# Altium schematic symbol library Female Header.SchLib: 61 symbols
Pins are listed as number, name and electrical type; pins without a type are passive.

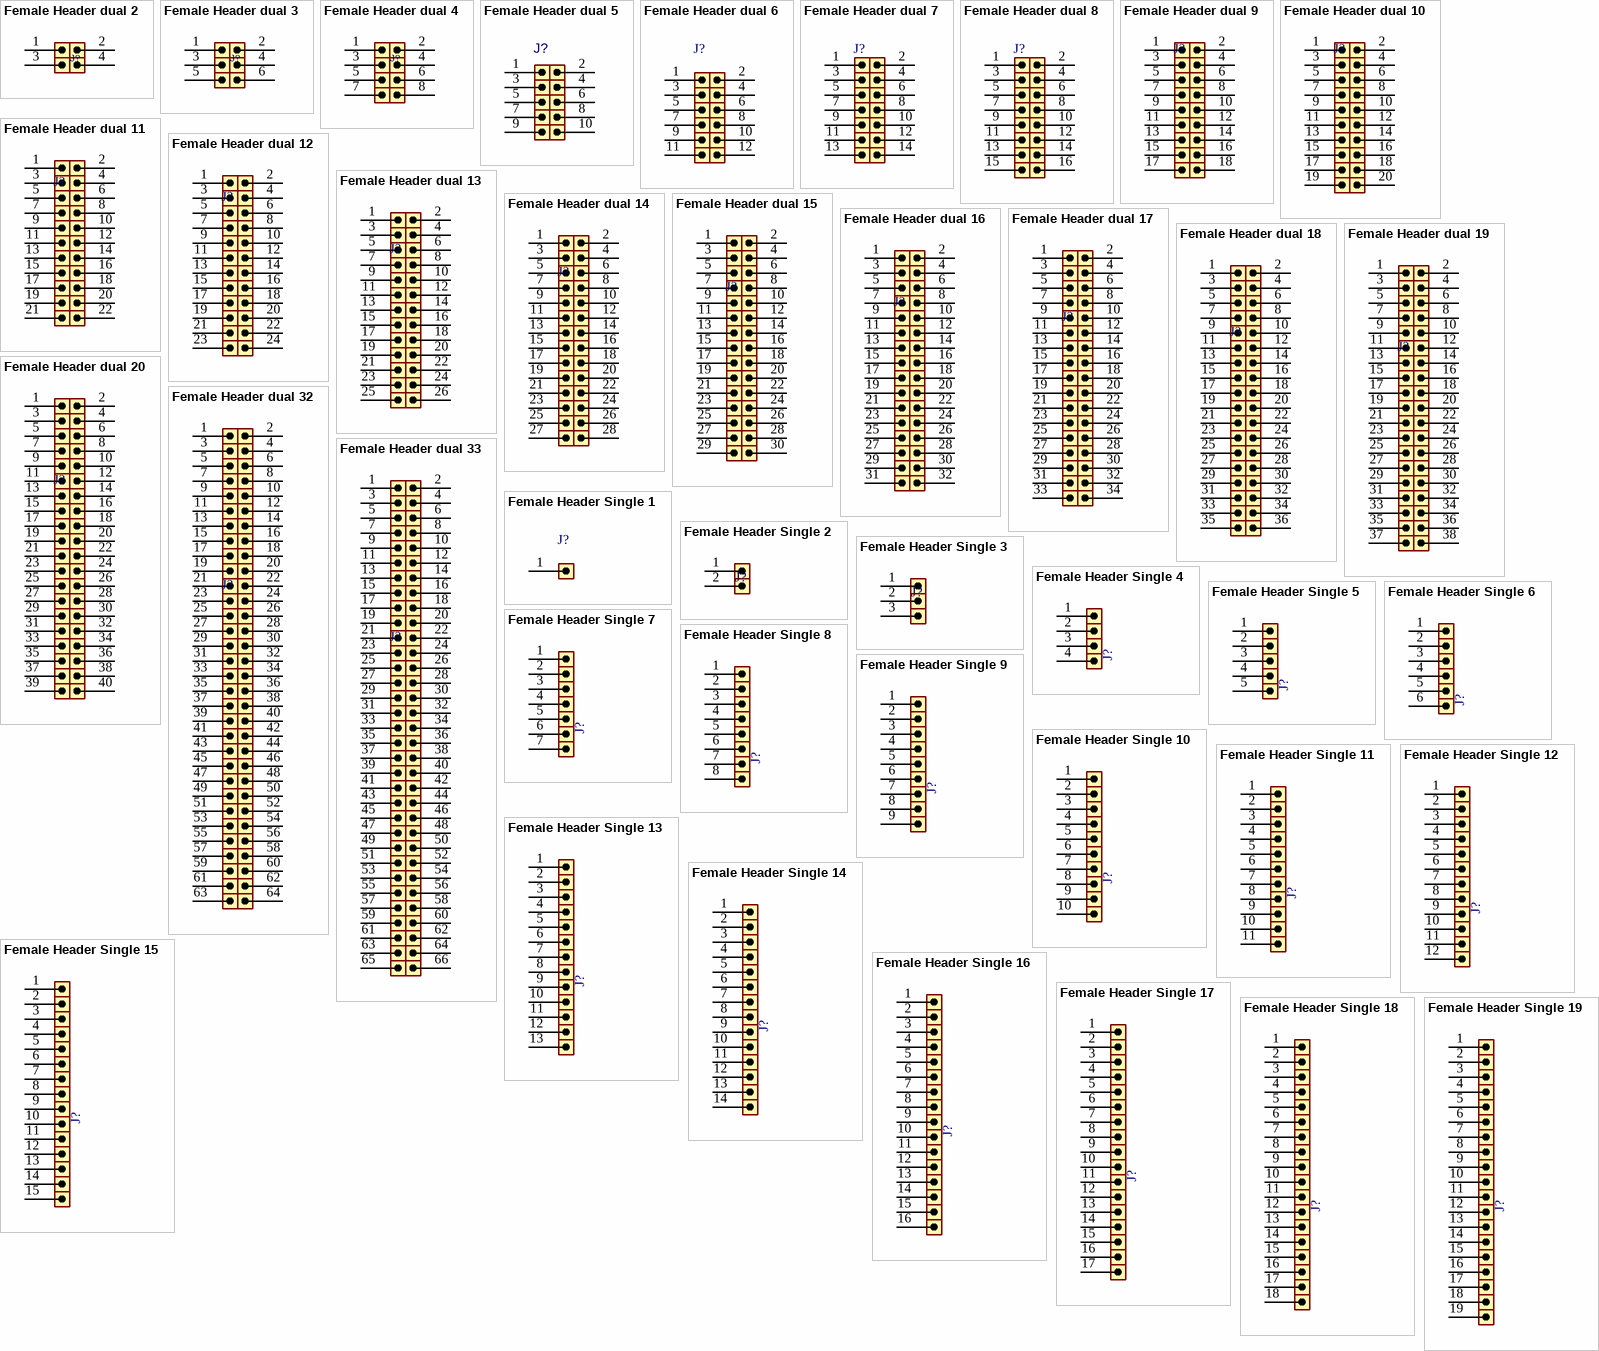
[diagram p0: symbols Female Header dual 2 to Female Header Single 19]

## Female Header dual 2
designator J?
Female, pitch: 2.54mm; DatasheetVersion: 2022
pins: 1, 2, 3, 4

## Female Header dual 3
designator J?
Female, pitch: 2.54mm; DatasheetVersion: 2022
pins: 1, 2, 3, 4, 5, 6

## Female Header dual 4
designator J?
Female, pitch: 2.54mm; DatasheetVersion: 2022
pins: 1, 2, 3, 4, 5, 6, 7, 8

## Female Header dual 5
designator J?
Female, pitch: 2.54mm; DatasheetVersion: 2022
pins: 1, 2, 3, 4, 5, 6, 7, 8, 9, 10

## Female Header dual 6
designator J?
Female, pitch: 2.54mm; DatasheetVersion: 2022
pins: 1, 2, 3, 4, 5, 6, 7, 8, 9, 10, 11, 12

## Female Header dual 7
designator J?
Female, pitch: 2.54mm; DatasheetVersion: 2022
pins: 1, 2, 3, 4, 5, 6, 7, 8, 9, 10, 11, 12, 13, 14

## Female Header dual 8
designator J?
Female, pitch: 2.54mm; DatasheetVersion: 2022
pins: 1, 2, 3, 4, 5, 6, 7, 8, 9, 10, 11, 12, 13, 14, 15, 16

## Female Header dual 9
designator J?
Female, pitch: 2.54mm; DatasheetVersion: 2022
pins: 1, 2, 3, 4, 5, 6, 7, 8, 9, 10, 11, 12, 13, 14, 15, 16, 17, 18

## Female Header dual 10
designator J?
Female, pitch: 2.54mm; DatasheetVersion: 2022
pins: 1, 2, 3, 4, 5, 6, 7, 8, 9, 10, 11, 12, 13, 14, 15, 16, 17, 18, 19, 20

## Female Header dual 11
designator J?
Female, pitch: 2.54mm; DatasheetVersion: 2022
pins: 1, 2, 3, 4, 5, 6, 7, 8, 9, 10, 11, 12, 13, 14, 15, 16, 17, 18, 19, 20, 21, 22

## Female Header dual 12
designator J?
Female, pitch: 2.54mm; DatasheetVersion: 2022
pins: 1, 2, 3, 4, 5, 6, 7, 8, 9, 10, 11, 12, 13, 14, 15, 16, 17, 18, 19, 20, 21, 22, 23, 24

## Female Header dual 13
designator J?
Female, pitch: 2.54mm; DatasheetVersion: 2022
pins: 1, 2, 3, 4, 5, 6, 7, 8, 9, 10, 11, 12, 13, 14, 15, 16, 17, 18, 19, 20, 21, 22, 23, 24, 25, 26

## Female Header dual 14
designator J?
Female, pitch: 2.54mm; DatasheetVersion: 2022
pins: 1, 2, 3, 4, 5, 6, 7, 8, 9, 10, 11, 12, 13, 14, 15, 16, 17, 18, 19, 20, 21, 22, 23, 24, 25, 26, 27, 28

## Female Header dual 15
designator J?
Female, pitch: 2.54mm; DatasheetVersion: 2022
pins: 1, 2, 3, 4, 5, 6, 7, 8, 9, 10, 11, 12, 13, 14, 15, 16, 17, 18, 19, 20, 21, 22, 23, 24, 25, 26, 27, 28, 29, 30

## Female Header dual 16
designator J?
Female, pitch: 2.54mm; DatasheetVersion: 2022
pins: 1, 2, 3, 4, 5, 6, 7, 8, 9, 10, 11, 12, 13, 14, 15, 16, 17, 18, 19, 20, 21, 22, 23, 24, 25, 26, 27, 28, 29, 30, 31, 32

## Female Header dual 17
designator J?
Female, pitch: 2.54mm; DatasheetVersion: 2022
pins: 1, 2, 3, 4, 5, 6, 7, 8, 9, 10, 11, 12, 13, 14, 15, 16, 17, 18, 19, 20, 21, 22, 23, 24, 25, 26, 27, 28, 29, 30, 31, 32, 33, 34

## Female Header dual 18
designator J?
Female, pitch: 2.54mm; DatasheetVersion: 2022
pins: 1, 2, 3, 4, 5, 6, 7, 8, 9, 10, 11, 12, 13, 14, 15, 16, 17, 18, 19, 20, 21, 22, 23, 24, 25, 26, 27, 28, 29, 30, 31, 32, 33, 34, 35, 36

## Female Header dual 19
designator J?
Female, pitch: 2.54mm; DatasheetVersion: 2022
pins: 1, 2, 3, 4, 5, 6, 7, 8, 9, 10, 11, 12, 13, 14, 15, 16, 17, 18, 19, 20, 21, 22, 23, 24, 25, 26, 27, 28, 29, 30, 31, 32, 33, 34, 35, 36, 37, 38

## Female Header dual 20
designator J?
Female, pitch: 2.54mm; DatasheetVersion: 2022
pins: 1, 2, 3, 4, 5, 6, 7, 8, 9, 10, 11, 12, 13, 14, 15, 16, 17, 18, 19, 20, 21, 22, 23, 24, 25, 26, 27, 28, 29, 30, 31, 32, 33, 34, 35, 36, 37, 38, 39, 40

## Female Header dual 32
designator J?
Female, pitch: 2.54mm; DatasheetVersion: 2022
pins: 1, 2, 3, 4, 5, 6, 7, 8, 9, 10, 11, 12, 13, 14, 15, 16, 17, 18, 19, 20, 21, 22, 23, 24, 25, 26, 27, 28, 29, 30, 31, 32, 33, 34, 35, 36, 37, 38, 39, 40, 41, 42, 43, 44, 45, 46, 47, 48, 49, 50, 51, 52, 53, 54, 55, 56, 57, 58, 59, 60, 61, 62, 63, 64

## Female Header dual 33
designator J?
Female, pitch: 2.54mm; DatasheetVersion: 2022
pins: 1, 2, 3, 4, 5, 6, 7, 8, 9, 10, 11, 12, 13, 14, 15, 16, 17, 18, 19, 20, 21, 22, 23, 24, 25, 26, 27, 28, 29, 30, 31, 32, 33, 34, 35, 36, 37, 38, 39, 40, 41, 42, 43, 44, 45, 46, 47, 48, 49, 50, 51, 52, 53, 54, 55, 56, 57, 58, 59, 60, 61, 62, 63, 64, 65, 66

## Female Header Single 1
designator J?
Female, pitch: 2.54mm; DatasheetVersion: 2022
pins: 1

## Female Header Single 2
designator J?
Female, pitch: 2.54mm; DatasheetVersion: 2022
pins: 1, 2

## Female Header Single 3
designator J?
Female, pitch: 2.54mm; DatasheetVersion: 2022
pins: 1, 2, 3

## Female Header Single 4
designator J?
Female, pitch: 2.54mm; DatasheetVersion: 2022
pins: 1, 2, 3, 4

## Female Header Single 5
designator J?
Female, pitch: 2.54mm; DatasheetVersion: 2022
pins: 1, 2, 3, 4, 5

## Female Header Single 6
designator J?
Female, pitch: 2.54mm; DatasheetVersion: 2022
pins: 1, 2, 3, 4, 5, 6

## Female Header Single 7
designator J?
Female, pitch: 2.54mm; DatasheetVersion: 2022
pins: 1, 2, 3, 4, 5, 6, 7

## Female Header Single 8
designator J?
Female, pitch: 2.54mm; DatasheetVersion: 2022
pins: 1, 2, 3, 4, 5, 6, 7, 8

## Female Header Single 9
designator J?
Female, pitch: 2.54mm; DatasheetVersion: 2022
pins: 1, 2, 3, 4, 5, 6, 7, 8, 9

## Female Header Single 10
designator J?
Female, pitch: 2.54mm; DatasheetVersion: 2022
pins: 1, 2, 3, 4, 5, 6, 7, 8, 9, 10

## Female Header Single 11
designator J?
Female, pitch: 2.54mm; DatasheetVersion: 2022
pins: 1, 2, 3, 4, 5, 6, 7, 8, 9, 10, 11

## Female Header Single 12
designator J?
Female, pitch: 2.54mm; DatasheetVersion: 2022
pins: 1, 2, 3, 4, 5, 6, 7, 8, 9, 10, 11, 12

## Female Header Single 13
designator J?
Female, pitch: 2.54mm; DatasheetVersion: 2022
pins: 1, 2, 3, 4, 5, 6, 7, 8, 9, 10, 11, 12, 13

## Female Header Single 14
designator J?
Female, pitch: 2.54mm; DatasheetVersion: 2022
pins: 1, 2, 3, 4, 5, 6, 7, 8, 9, 10, 11, 12, 13, 14

## Female Header Single 15
designator J?
Female, pitch: 2.54mm; DatasheetVersion: 2022
pins: 1, 2, 3, 4, 5, 6, 7, 8, 9, 10, 11, 12, 13, 14, 15

## Female Header Single 16
designator J?
Female, pitch: 2.54mm; DatasheetVersion: 2022
pins: 1, 2, 3, 4, 5, 6, 7, 8, 9, 10, 11, 12, 13, 14, 15, 16

## Female Header Single 17
designator J?
Female, pitch: 2.54mm; DatasheetVersion: 2022
pins: 1, 2, 3, 4, 5, 6, 7, 8, 9, 10, 11, 12, 13, 14, 15, 16, 17

## Female Header Single 18
designator J?
Female, pitch: 2.54mm; DatasheetVersion: 2022
pins: 1, 2, 3, 4, 5, 6, 7, 8, 9, 10, 11, 12, 13, 14, 15, 16, 17, 18

## Female Header Single 19
designator J?
Female, pitch: 2.54mm; DatasheetVersion: 2022
pins: 1, 2, 3, 4, 5, 6, 7, 8, 9, 10, 11, 12, 13, 14, 15, 16, 17, 18, 19

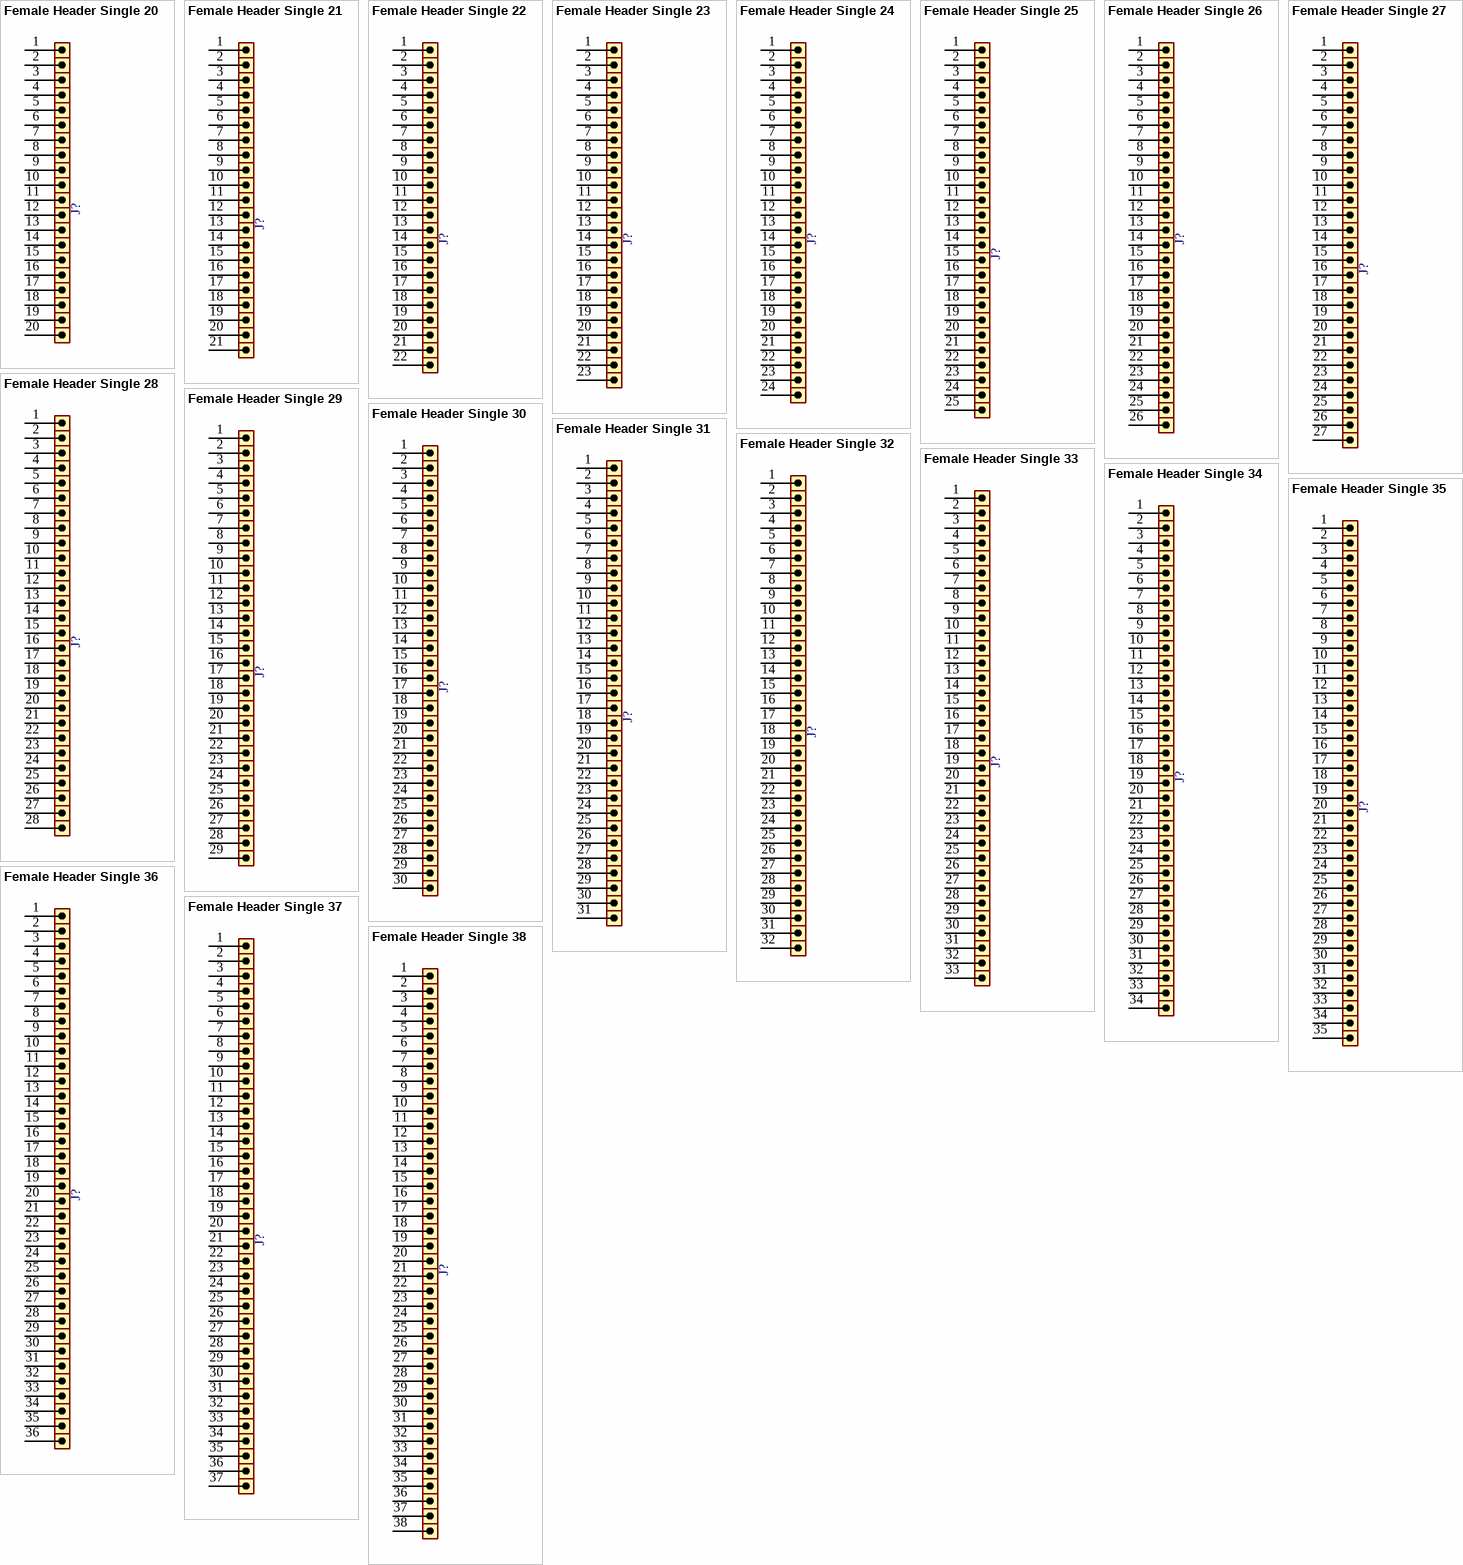
[diagram p1: symbols Female Header Single 20 to Female Header Single 38]

## Female Header Single 20
designator J?
Female, pitch: 2.54mm; DatasheetVersion: 2022
pins: 1, 2, 3, 4, 5, 6, 7, 8, 9, 10, 11, 12, 13, 14, 15, 16, 17, 18, 19, 20

## Female Header Single 21
designator J?
Female, pitch: 2.54mm; DatasheetVersion: 2022
pins: 1, 2, 3, 4, 5, 6, 7, 8, 9, 10, 11, 12, 13, 14, 15, 16, 17, 18, 19, 20, 21

## Female Header Single 22
designator J?
Female, pitch: 2.54mm; DatasheetVersion: 2022
pins: 1, 2, 3, 4, 5, 6, 7, 8, 9, 10, 11, 12, 13, 14, 15, 16, 17, 18, 19, 20, 21, 22

## Female Header Single 23
designator J?
Female, pitch: 2.54mm; DatasheetVersion: 2022
pins: 1, 2, 3, 4, 5, 6, 7, 8, 9, 10, 11, 12, 13, 14, 15, 16, 17, 18, 19, 20, 21, 22, 23

## Female Header Single 24
designator J?
Female, pitch: 2.54mm; DatasheetVersion: 2022
pins: 1, 2, 3, 4, 5, 6, 7, 8, 9, 10, 11, 12, 13, 14, 15, 16, 17, 18, 19, 20, 21, 22, 23, 24

## Female Header Single 25
designator J?
Female, pitch: 2.54mm; DatasheetVersion: 2022
pins: 1, 2, 3, 4, 5, 6, 7, 8, 9, 10, 11, 12, 13, 14, 15, 16, 17, 18, 19, 20, 21, 22, 23, 24, 25

## Female Header Single 26
designator J?
Female, pitch: 2.54mm; DatasheetVersion: 2022
pins: 1, 2, 3, 4, 5, 6, 7, 8, 9, 10, 11, 12, 13, 14, 15, 16, 17, 18, 19, 20, 21, 22, 23, 24, 25, 26

## Female Header Single 27
designator J?
Female, pitch: 2.54mm; DatasheetVersion: 2022
pins: 1, 2, 3, 4, 5, 6, 7, 8, 9, 10, 11, 12, 13, 14, 15, 16, 17, 18, 19, 20, 21, 22, 23, 24, 25, 26, 27

## Female Header Single 28
designator J?
Female, pitch: 2.54mm; DatasheetVersion: 2022
pins: 1, 2, 3, 4, 5, 6, 7, 8, 9, 10, 11, 12, 13, 14, 15, 16, 17, 18, 19, 20, 21, 22, 23, 24, 25, 26, 27, 28

## Female Header Single 29
designator J?
Female, pitch: 2.54mm; DatasheetVersion: 2022
pins: 1, 2, 3, 4, 5, 6, 7, 8, 9, 10, 11, 12, 13, 14, 15, 16, 17, 18, 19, 20, 21, 22, 23, 24, 25, 26, 27, 28, 29

## Female Header Single 30
designator J?
Female, pitch: 2.54mm; DatasheetVersion: 2022
pins: 1, 2, 3, 4, 5, 6, 7, 8, 9, 10, 11, 12, 13, 14, 15, 16, 17, 18, 19, 20, 21, 22, 23, 24, 25, 26, 27, 28, 29, 30

## Female Header Single 31
designator J?
Female, pitch: 2.54mm; DatasheetVersion: 2022
pins: 1, 2, 3, 4, 5, 6, 7, 8, 9, 10, 11, 12, 13, 14, 15, 16, 17, 18, 19, 20, 21, 22, 23, 24, 25, 26, 27, 28, 29, 30, 31

## Female Header Single 32
designator J?
Female, pitch: 2.54mm; DatasheetVersion: 2022
pins: 1, 2, 3, 4, 5, 6, 7, 8, 9, 10, 11, 12, 13, 14, 15, 16, 17, 18, 19, 20, 21, 22, 23, 24, 25, 26, 27, 28, 29, 30, 31, 32

## Female Header Single 33
designator J?
Female, pitch: 2.54mm; DatasheetVersion: 2022
pins: 1, 2, 3, 4, 5, 6, 7, 8, 9, 10, 11, 12, 13, 14, 15, 16, 17, 18, 19, 20, 21, 22, 23, 24, 25, 26, 27, 28, 29, 30, 31, 32, 33

## Female Header Single 34
designator J?
Female, pitch: 2.54mm; DatasheetVersion: 2022
pins: 1, 2, 3, 4, 5, 6, 7, 8, 9, 10, 11, 12, 13, 14, 15, 16, 17, 18, 19, 20, 21, 22, 23, 24, 25, 26, 27, 28, 29, 30, 31, 32, 33, 34

## Female Header Single 35
designator J?
Female, pitch: 2.54mm; DatasheetVersion: 2022
pins: 1, 2, 3, 4, 5, 6, 7, 8, 9, 10, 11, 12, 13, 14, 15, 16, 17, 18, 19, 20, 21, 22, 23, 24, 25, 26, 27, 28, 29, 30, 31, 32, 33, 34, 35

## Female Header Single 36
designator J?
Female, pitch: 2.54mm; DatasheetVersion: 2022
pins: 1, 2, 3, 4, 5, 6, 7, 8, 9, 10, 11, 12, 13, 14, 15, 16, 17, 18, 19, 20, 21, 22, 23, 24, 25, 26, 27, 28, 29, 30, 31, 32, 33, 34, 35, 36

## Female Header Single 37
designator J?
Female, pitch: 2.54mm; DatasheetVersion: 2022
pins: 1, 2, 3, 4, 5, 6, 7, 8, 9, 10, 11, 12, 13, 14, 15, 16, 17, 18, 19, 20, 21, 22, 23, 24, 25, 26, 27, 28, 29, 30, 31, 32, 33, 34, 35, 36, 37

## Female Header Single 38
designator J?
Female, pitch: 2.54mm; DatasheetVersion: 2022
pins: 1, 2, 3, 4, 5, 6, 7, 8, 9, 10, 11, 12, 13, 14, 15, 16, 17, 18, 19, 20, 21, 22, 23, 24, 25, 26, 27, 28, 29, 30, 31, 32, 33, 34, 35, 36, 37, 38

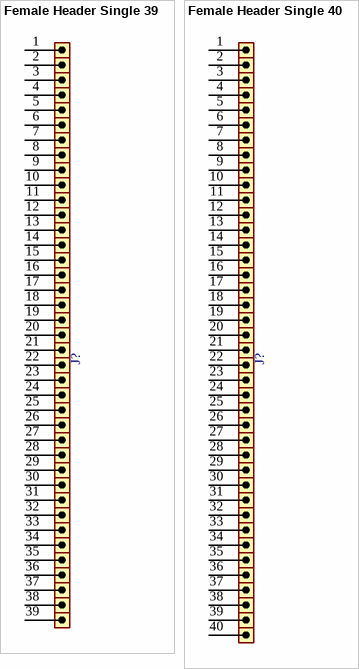
[diagram p2: symbols Female Header Single 39 to Female Header Single 40]

## Female Header Single 39
designator J?
Female, pitch: 2.54mm; DatasheetVersion: 2022
pins: 1, 2, 3, 4, 5, 6, 7, 8, 9, 10, 11, 12, 13, 14, 15, 16, 17, 18, 19, 20, 21, 22, 23, 24, 25, 26, 27, 28, 29, 30, 31, 32, 33, 34, 35, 36, 37, 38, 39

## Female Header Single 40
designator J?
Female, pitch: 2.54mm; DatasheetVersion: 2022
pins: 1, 2, 3, 4, 5, 6, 7, 8, 9, 10, 11, 12, 13, 14, 15, 16, 17, 18, 19, 20, 21, 22, 23, 24, 25, 26, 27, 28, 29, 30, 31, 32, 33, 34, 35, 36, 37, 38, 39, 40